# Altium schematic symbol library KAM32LR72A475KU.SchLib: 1 symbol
Pins are listed as number, name and electrical type; pins without a type are passive.

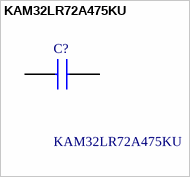
[diagram p0: symbol KAM32LR72A475KU]

## KAM32LR72A475KU
designator C?
Multilayer Ceramic Capacitors MLCC - SMD/SMT 100V 4.7uF X7R 1210 10% AEC-Q200; Manufacturer_Name: Kyocera AVX; Geometry.Height: 0.94mm; Mouser Part Number: 581-KAM32LR72A475KU; Mouser Price/Stock: https://www.mouser.co.uk/ProductDetail/KYOCERA-AVX/KAM32LR72A475KU?qs=Jm2GQyTW%2FbjYtp2QXhBrlg%3D%3D; Manufacturer_Part_Number: KAM32LR72A475KU; Datasheet Link: *
footprint CAPC3225X94N
pins: 1, 2